# Altium footprint library HDMI_Micro_Edge_Vertical.PcbLib: 1 footprints
Each footprint in its own frame and in the unit in brackets; x right, y up, seen from the top. Pads: shape width x height; smd on the part's side, far side on the other; paste and mask are expansions set on the pad; w line width, h text height; cw(c..) or ccw(c..) is an arc to the next point about the centre after c.
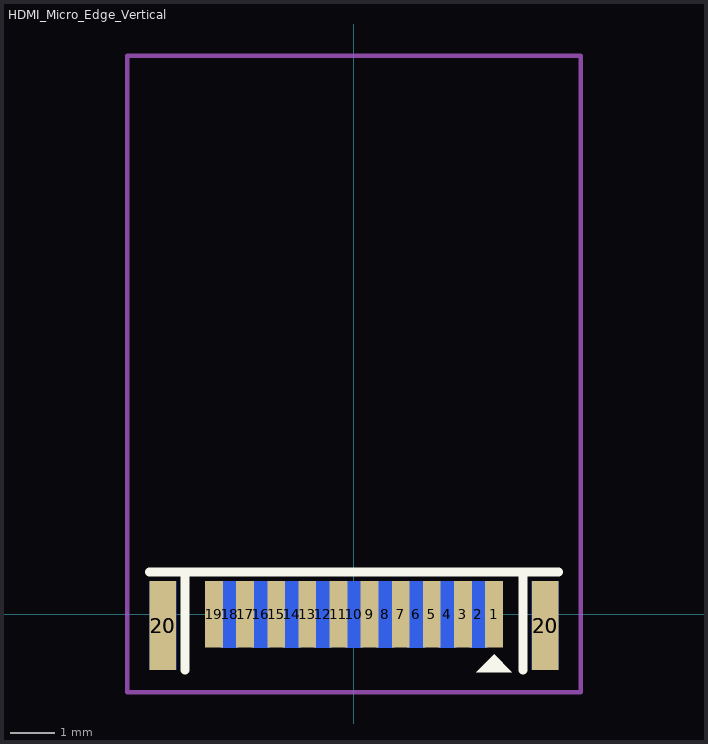
[diagram p0: the footprint, top view; thin cyan lines are the x and y axes]

## HDMI_Micro_Edge_Vertical [mm]
pads (23):
  rect 0.4x1.5 smd: 1(3.15,0) 3(2.45,0) 5(1.75,0) 7(1.05,0) 9(0.35,0) 11(-0.35,0) 13(-1.05,0) 15(-1.75,0) 17(-2.45,0) 19(-3.15,0)
  rect 0.4x1.5 smd far side: 2(2.8,0) 4(2.1,0) 6(1.4,0) 8(0.7,0) 10(0,0) 12(-0.7,0) 14(-1.4,0) 16(-2.1,0) 18(-2.8,0)
  rect 0.6x2 smd: 20(-4.3,-0.25) 20(4.3,-0.25)
  rect 0.6x2 smd far side: 20(-4.3,-0.25) 20(4.3,-0.25)
Top Overlay:
  region: 3.55,-1.3 2.75,-1.3 3.15,-0.9
  lines w0.2: -4.6,0.95 -3.8,0.95 ; -3.8,-1.25 -3.8,0.95 ; 3.8,-1.25 3.8,0.95 ; 4.6,0.95 3.8,0.95 ; -3.8,0.95 3.8,0.95
Top Courtyard:
  lines w0.1: -5.1,-1.75 -4.6,-1.75 5.1,-1.75 5.1,12.567 -5.1,12.567 -5.1,-1.75
3D body "User Library-HDMID.STEP": height 1.45, standoff -2.35, extent -4.3,-1.05 4.3,12.06